# Altium footprint library CONN_jk.PcbLib: 55 footprints (part 4 of 4)
Each footprint in its own frame and in the unit in brackets; x right, y up, seen from the top. Pads: shape width x height; smd on the part's side, far side on the other; paste and mask are expansions set on the pad; w line width, h text height; cw(c..) or ccw(c..) is an arc to the next point about the centre after c.
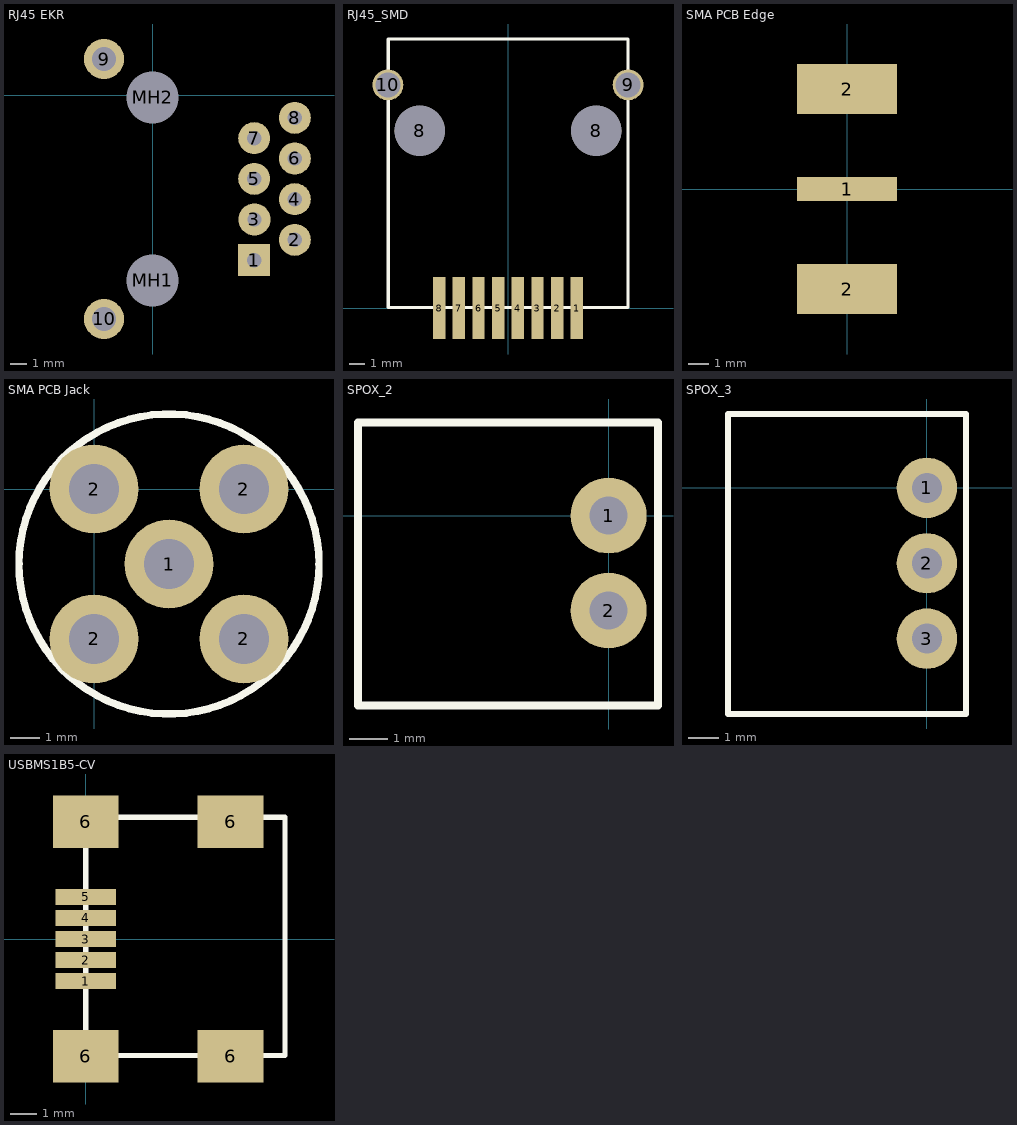
[diagram p3: the footprints below, top view; thin cyan lines are the x and y axes]

## RJ45 EKR [mm]
pads (12):
  rect 2x2 hole 0.9: 1(6.334,-10.285)
  round 2 hole 0.9: 2(8.874,-9.015) 3(6.35,-7.747) 4(8.874,-6.475) 5(6.334,-5.205) 6(8.874,-3.935) 7(6.334,-2.665) 8(8.874,-1.395)
  round 2.5 hole 1.5 unplated: 9(-3.048,2.278) 10(-3.048,-13.962)
  round 2.95 hole 3.25 unplated: MH1(-0.016,-11.555) MH2(-0.016,-0.125)
Bottom Overlay:
  lines w0.2: -8.001,-13.97 -0.703,-13.97 ; -8.001,-13.843 -8.001,2.286 -0.703,2.286 ; 0.635,-13.97 9.988,-13.97 ; 0.671,2.286 10.024,2.286 10.024,-13.97

## RJ45_SMD [mm]
pads (12):
  rect 0.8x4 smd: 1(4.445,0) 2(3.175,0) 3(1.905,0) 4(0.635,0) 5(-0.635,0) 6(-1.905,0) 7(-3.175,0) 8(-4.445,0)
  round 3.25 hole 3.25: 8(-5.715,11.47) 8(5.715,11.47)
  round 2 hole 1.6: 9(7.77,14.44) 10(-7.77,14.44)
Top Overlay:
  lines w0.2: -7.748,0.025 -7.748,17.41 7.773,17.41 7.773,0.025 -7.748,0.025

## SMA PCB Edge [mm]
pads (3):
  rect 5x1.2 smd: 1(0,0)
  rect 5x2.5 all layers, no hole: 2(0,-5) 2(0,5)

## SMA PCB Jack [mm]
pads (5):
  round 3 hole 1.702: 1(2.54,-2.54) 2(0,-5.08) 2(0,0) 2(5.08,-5.08) 2(5.08,0)
Top Overlay:
  circle w0.254: c2.54,-2.54 r5.08

## SPOX_2 [mm]
pads (2):
  round 2 hole 1: 1(0,0) 2(0,-2.5)
Top Overlay:
  lines w0.2: -6.6,-5 1.3,-5 1.3,2.45 -6.6,2.45 -6.6,-5

## SPOX_3 [mm]
pads (3):
  round 2 hole 1: 1(0,0) 2(0,-2.5) 3(0,-5)
Top Overlay:
  lines w0.2: -6.6,-7.5 1.3,-7.5 1.3,2.45 -6.6,2.45 -6.6,-7.5

## USBMS1B5-CV [mm]
pads (9):
  rect 2.3x0.6 smd: 1(0,-1.6) 2(0,-0.8) 3(0,0) 4(0,0.8) 5(0,1.6)
  rect 2.5x2 smd: 6(0,-4.45) 6(0,4.45) 6(5.5,-4.45) 6(5.5,4.45)
Top Overlay:
  lines w0.2: 0,-4.424 7.573,-4.424 7.573,4.624 0,4.624 0,-4.424